# Altium footprint library resistor0603(footprint).PcbLib: 1 footprints
Each footprint in its own frame and in the unit in brackets; x right, y up, seen from the top. Pads: shape width x height; smd on the part's side, far side on the other; paste and mask are expansions set on the pad; w line width, h text height; cw(c..) or ccw(c..) is an arc to the next point about the centre after c.
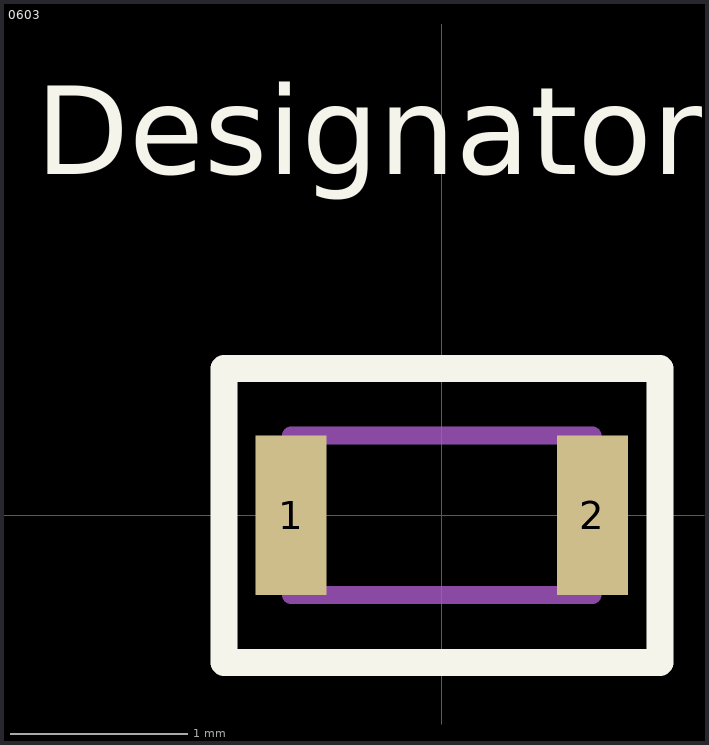
[diagram p0: the footprint, top view; thin cyan lines are the x and y axes]

## 0603 [mm]
pads (2):
  rect 0.4x0.9 smd mask+0.076: 1(-0.85,0) 2(0.85,0)
Top Overlay:
  lines w0.152: -1.23,-0.83 1.23,-0.83 1.23,0.83 -1.23,0.83 -1.23,-0.83
  text "Designator" at -2.291,1.927 h0.5
Mechanical 13:
  lines w0.102: -0.85,-0.45 0.85,-0.45 0.85,0.45 -0.85,0.45 -0.85,-0.45